# EAGLE library part TC2050-NL (library MotionDetectorCamera)
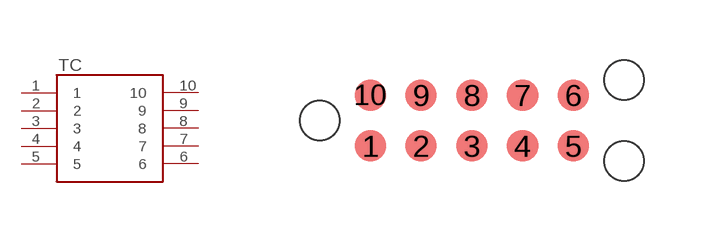
[diagram p6: symbol with the pads of TC2050-NL; footprint TC2050-NL]

Designator prefix TC

## TC2050-NL  [TC2050-NL]
1  1
2  2
3  3
4  4
5  5
6  6
7  7
8  8
9  9
10  10

## Footprint TC2050-NL (pad centres in mm)
smd 0.787 x 0.787: 1 1.27,-0.635; 2 2.54,-0.635; 3 3.81,-0.635; 4 5.08,-0.635; 5 6.35,-0.635; 6 6.35,0.635; 7 5.08,0.635; 8 3.81,0.635; 9 2.54,0.635; 10 1.27,0.635
hole 0.991 at 0,0
hole 0.991 at 7.62,-1.016
hole 0.991 at 7.62,1.016